# Altium footprint library Common Devices.PcbLib: 33 footprints (part 2 of 3)
Each footprint in its own frame and in the unit in brackets; x right, y up, seen from the top. Pads: shape width x height; smd on the part's side, far side on the other; paste and mask are expansions set on the pad; w line width, h text height; cw(c..) or ccw(c..) is an arc to the next point about the centre after c.
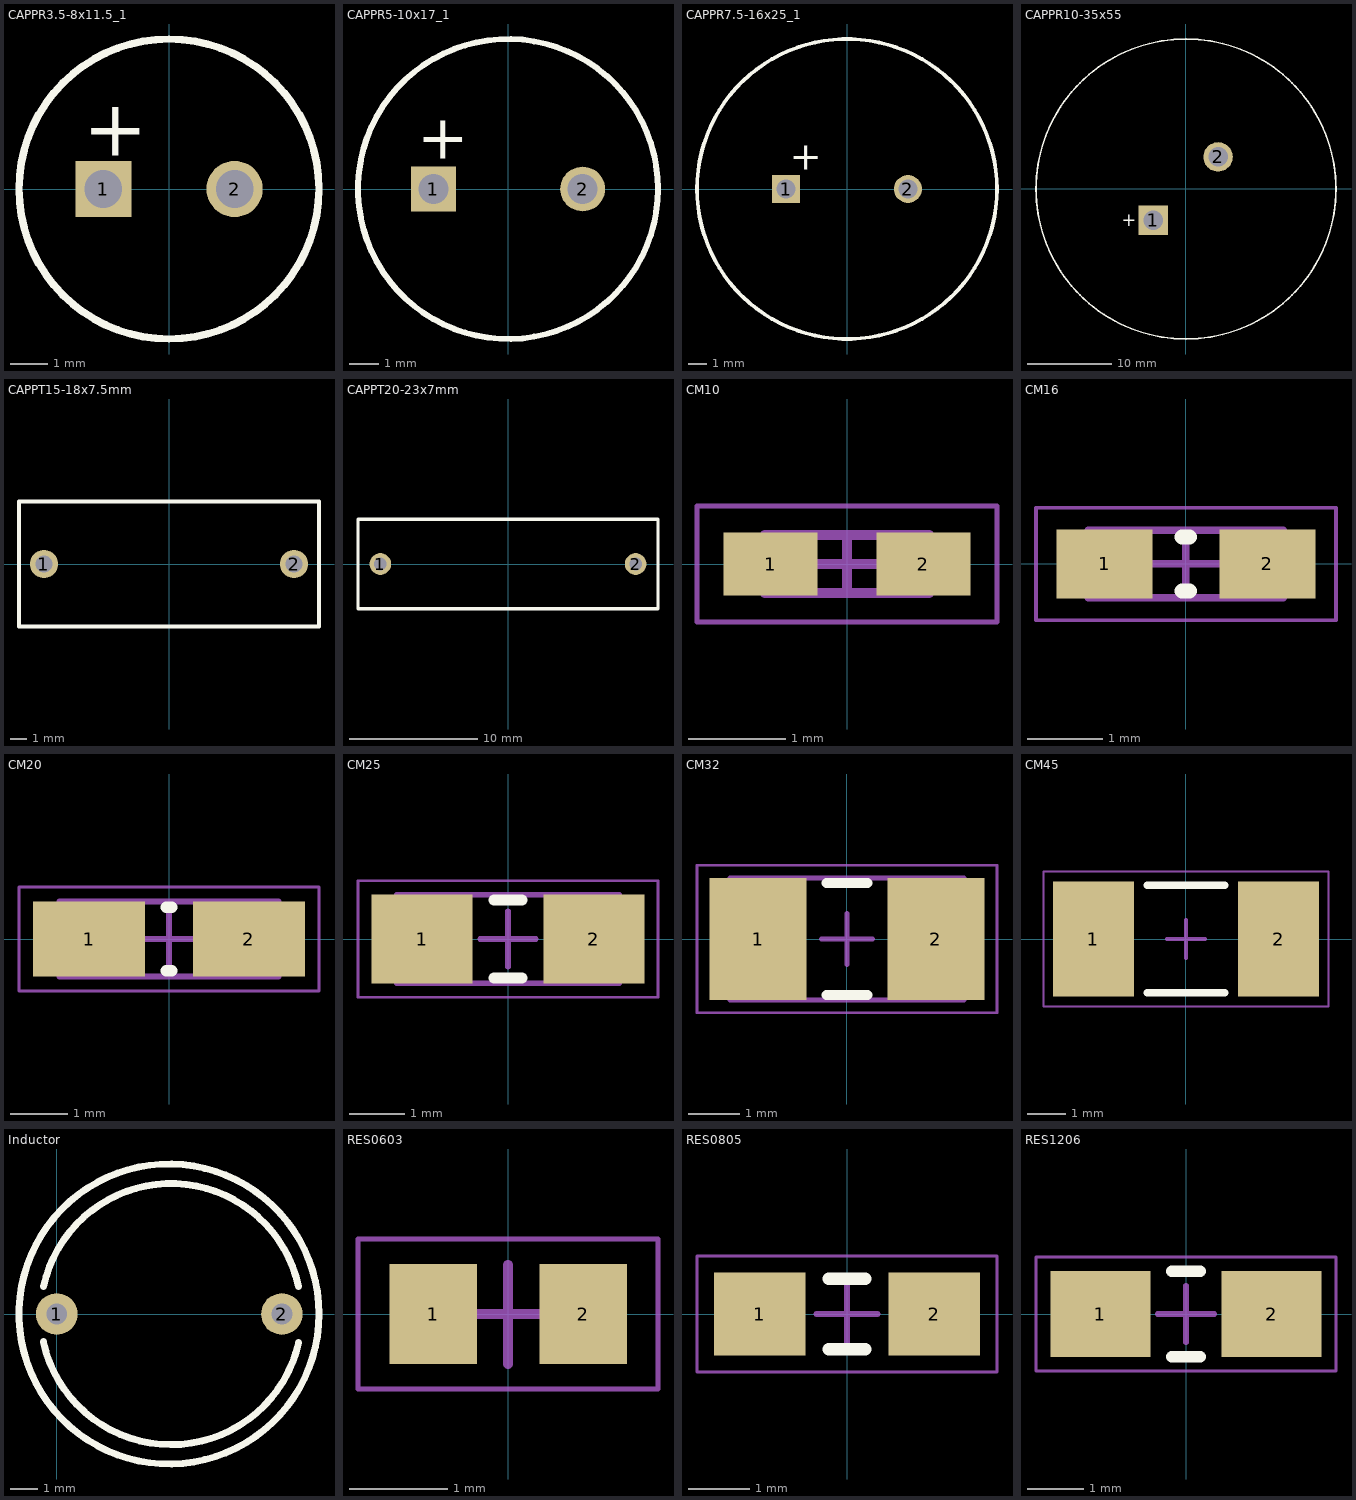
[diagram p1: the footprints below, top view; thin cyan lines are the x and y axes]

## CAPPR3.5-8x11.5_1 [mm] "Capacitor, Electrolytic, Radial; Body 8 x 11.5 mm (Dia.xH typ); Pin Spacing 3.5 mm (typ)"
height 12.5
pads (2):
  rect 1.5x1.5 hole 1: 1(-1.75,0)
  round 1.5 hole 1: 2(1.75,0)
Top Overlay:
  circle w0.2: c0,0 r4
  text "+" at -2.286,0.889 h1.5
3D body "SW3dPS-Cap electro 8x11.5x3.5mm.STEP": height 12.03, standoff -3.48, extent -4.025,-4.025 4.026,4.026

## CAPPR5-10x17_1 [mm] "Capacitor, Electrolytic, Radial; Body 10 x 17 mm (Dia.xH typ); Pin Spacing 5 mm (typ)"
height 17
pads (2):
  rect 1.5x1.5 hole 1: 1(-2.5,0)
  round 1.5 hole 1: 2(2.5,0)
Top Overlay:
  circle w0.2: c0,0 r5.025
  text "+" at -3.048,1.016 h1.5
3D body "SW3dPS-Cap electro 10x12.5x5.0mm.STEP": height 13.03, standoff -3.48, extent -5.025,-5.001 5.026,5.05

## CAPPR7.5-16x25_1 [mm] "Capacitor, Electrolytic, Radial; Body 16 x 25 mm (Dia.xH typ); Pin Spacing 7.5 mm (typ)"
height 25
pads (2):
  rect 1.5x1.5 hole 1: 1(-3.25,0)
  round 1.5 hole 1: 2(3.25,0)
Top Overlay:
  circle w0.2: c0,0 r8
  text "+" at -3.048,1.016 h1.5

## CAPPR10-35x55 [mm] "Aluminium Electrolytic capacitor"
height 55
pads (2):
  rect 3.5x3.5 hole 2.3: 1(-3.85,-3.75)
  round 3.5 hole 2.3: 2(3.85,3.75)
Top Overlay:
  circle w0.2: c0.05,-0.05 r17.78
  text "+" at -7.55,-4.45 h1.5
3D body "SW3dPS-Capacitor_SnapIn_35x50mm.STEP": height 51.56, standoff -4.62, extent -17.73,-17.83 17.83,17.73

## CAPPT15-18x7.5mm [mm] "Film capasitor"
height 15
pads (2):
  round 1.7 hole 1: 1(-7.5,0) 2(7.5,0)
Top Overlay:
  lines w0.254: -9,-3.75 -9,3.75 9,3.75 9,-3.75 -9,-3.75

## CAPPT20-23x7mm [mm] "Film capasitor"
height 13.5
pads (2):
  round 1.7 hole 1: 1(-10,0) 2(10,0)
Top Overlay:
  lines w0.254: -11.75,-3.5 -11.75,3.5 11.75,3.5 11.75,-3.5 -11.75,-3.5

## CM10 [mm]
height 0.55
pads (2):
  rect 0.97x0.65 smd: 1(-0.79,0) 2(0.79,0)
Mechanical 13:
  lines w0.1: -0.85,-0.3 -0.85,0.3 0.85,0.3 0.85,-0.3 -0.85,-0.3
Mechanical 15:
  lines w0.05: -1.55,-0.6 -1.55,0.6 1.55,0.6 1.55,-0.6 -1.55,-0.6
  lines w0.1: -0.3,0 0.3,0 ; 0,-0.3 0,0.3
3D body: height 0.55, standoff 0, extent -0.32,-0.3 0.32,0.3
3D body: height 0.55, standoff 0, extent -0.85,-0.3 -0.32,0.3
3D body: height 0.55, standoff 0, extent 0.32,-0.3 0.85,0.3

## CM16 [mm]
height 0.55
pads (2):
  rect 1.28x0.92 smd: 1(-1.085,0) 2(1.085,0)
Top Overlay:
  lines w0.2: -0.05,-0.36 0.05,-0.36 ; -0.05,0.36 0.05,0.36
Mechanical 13:
  lines w0.1: -1.3,-0.45 -1.3,0.45 1.3,0.45 1.3,-0.45 -1.3,-0.45
Mechanical 15:
  lines w0.05: -2,-0.75 -2,0.75 2,0.75 2,-0.75 -2,-0.75
  lines w0.1: -0.45,0 0.45,0 ; 0,-0.45 0,0.45
3D body: height 0.55, standoff 0, extent -0.67,-0.45 0.67,0.45
3D body: height 0.55, standoff 0, extent -1.3,-0.45 -0.67,0.45
3D body: height 0.55, standoff 0, extent 0.67,-0.45 1.3,0.45

## CM20 [mm]
height 0.55
pads (2):
  rect 1.94x1.3 smd: 1(-1.385,0) 2(1.385,0)
Top Overlay:
  lines w0.2: -0.05,-0.55 0.05,-0.55 ; -0.05,0.55 0.05,0.55
Mechanical 13:
  lines w0.1: -1.9,-0.65 -1.9,0.65 1.9,0.65 1.9,-0.65 -1.9,-0.65
Mechanical 15:
  lines w0.05: -2.6,-0.9 -2.6,0.9 2.6,0.9 2.6,-0.9 -2.6,-0.9
  lines w0.1: -0.5,0 0.5,0 ; 0,-0.5 0,0.5
3D body: height 0.55, standoff 0, extent -0.75,-0.65 0.75,0.65
3D body: height 0.55, standoff 0, extent -1.9,-0.65 -0.75,0.65
3D body: height 0.55, standoff 0, extent 0.75,-0.65 1.9,0.65

## CM25 [mm]
height 0.55
pads (2):
  rect 1.82x1.6 smd: 1(-1.545,0) 2(1.545,0)
Top Overlay:
  lines w0.2: -0.25,-0.7 0.25,-0.7 ; -0.25,0.7 0.25,0.7
Mechanical 13:
  lines w0.1: -2,-0.8 -2,0.8 2,0.8 2,-0.8 -2,-0.8
Mechanical 15:
  lines w0.05: -2.7,-1.05 -2.7,1.05 2.7,1.05 2.7,-1.05 -2.7,-1.05
  lines w0.1: -0.5,0 0.5,0 ; 0,-0.5 0,0.5
3D body: height 0.55, standoff 0, extent -0.85,-0.8 0.85,0.8
3D body: height 0.55, standoff 0, extent -2,-0.8 -0.85,0.8
3D body: height 0.55, standoff 0, extent 0.85,-0.8 2,0.8

## CM32 [mm]
height 0.55
pads (2):
  rect 1.9x2.4 smd: 1(-1.75,0) 2(1.75,0)
Top Overlay:
  lines w0.2: -0.4,-1.1 0.4,-1.1 ; -0.4,1.1 0.4,1.1
Mechanical 13:
  lines w0.1: -2.3,-1.2 -2.3,1.2 2.3,1.2 2.3,-1.2 -2.3,-1.2
Mechanical 15:
  lines w0.05: -2.95,-1.45 -2.95,1.45 2.95,1.45 2.95,-1.45 -2.95,-1.45
  lines w0.1: -0.5,0 0.5,0 ; 0,-0.5 0,0.5
3D body: height 0.55, standoff 0, extent -1.05,-1.2 1.05,1.2
3D body: height 0.55, standoff 0, extent -2.3,-1.2 -1.05,1.2
3D body: height 0.55, standoff 0, extent 1.05,-1.2 2.3,1.2

## CM45 [mm]
height 0.55
pads (2):
  rect 2.1x2.99 smd: 1(-2.405,0) 2(2.405,0)
Top Overlay:
  lines w0.2: -1,-1.395 1,-1.395 ; -1,1.395 1,1.395
Mechanical 15:
  lines w0.05: -3.7,-1.75 -3.7,1.75 3.7,1.75 3.7,-1.75 -3.7,-1.75
  lines w0.1: -0.5,0 0.5,0 ; 0,-0.5 0,0.5
3D body "CM45.step": height 3.2, standoff 0, extent -2.25,-1.587 2.25,1.612

## Inductor [mil]
pads (2):
  round 60 hole 30: 1(0,0) 2(325,0)
Top Overlay:
  circle w10: c162,0 r216.54
  lines w10: -19.42,-39.87 ccw(c165,0) 349.19,-40.93 ; -19.03,39.79 cw(c165,0) 349.03,39.79

## RES0603 [mil]
pads (2):
  rect 35x40 smd: 1(-30,0) 2(30,0)
Mechanical 15:
  lines w1.97: -60,-30 60,-30 60,30 -60,30 -60,-30
  lines w3.94: -19.69,0 19.68,0 ; 0,-20 0,19.68
3D body "RES_1609-0603.step": height 22.05, standoff 0, extent -33.46,-15.74 33.47,15.75

## RES0805 [mm] "Chip Resistor, 2-Leads, Body 3.40x1.30mm, IPC Medium Density"
height 0.55
pads (2):
  rect 1.5x1.35 smd: 1(-1.425,0) 2(1.425,0)
Top Overlay:
  lines w0.2: -0.3,-0.575 0.3,-0.575 ; -0.3,0.575 0.3,0.575
Mechanical 15:
  lines w0.05: -2.45,-0.95 2.45,-0.95 2.45,0.95 -2.45,0.95 -2.45,-0.95
  lines w0.1: -0.5,0 0.5,0 ; 0,-0.5 0,0.5
3D body "RES_2013-0805.step": height 0.76, standoff 0, extent -1.15,-0.675 1.15,0.675

## RES1206 [mil]
pads (2):
  rect 70x60 smd: 1(-60,0) 2(60,0)
Top Overlay:
  lines w7.87: -10,-30 10,-30 ; -10,30 10,30
Mechanical 15:
  lines w1.97: -105,-40 105,-40 105,40 -105,40 -105,-40
  lines w3.94: -19.69,0 19.68,0 ; 0,-19.68 0,19.68
3D body "RES_3216-1206.step": height 33.46, standoff 0, extent -65.94,-34.05 65.95,34.05